# Altium footprint library PCB - Oscillators-TCXO - 4p - ECS-TXO-2016-33-160-TR.PcbLib: 1 footprints
Each footprint in its own frame and in the unit in brackets; x right, y up, seen from the top. Pads: shape width x height; smd on the part's side, far side on the other; paste and mask are expansions set on the pad; w line width, h text height; cw(c..) or ccw(c..) is an arc to the next point about the centre after c.
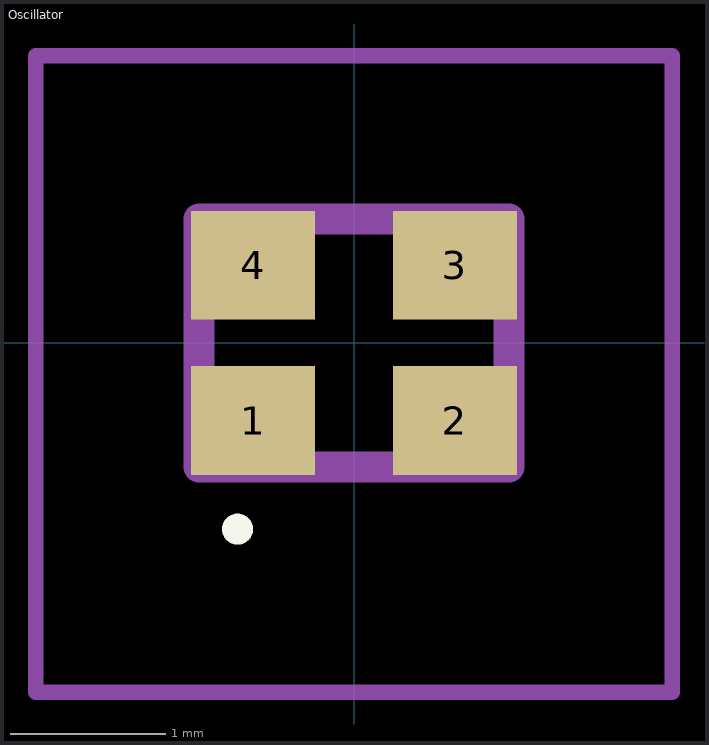
[diagram p0: the footprint, top view; thin cyan lines are the x and y axes]

## Oscillator [mm]
pads (4):
  rect 0.8x0.7 smd: 1(-0.65,-0.5) 2(0.65,-0.5) 3(0.65,0.5) 4(-0.65,0.5)
Top Overlay:
  lines w0.1: -0.8,-1.2 cw(c-0.75,-1.2) -0.7,-1.2 cw(c-0.75,-1.2) -0.8,-1.2
Mechanical 13:
  lines w0.2: -1,-0.8 -1,0.8 1,0.8 1,-0.8 -1,-0.8
Mechanical 15:
  lines w0.1: -2.05,-2.25 -2.05,1.85 2.05,1.85 2.05,-2.25 -2.05,-2.25
3D body "ECS-TXO-2016-33-160-TR.stp": height 0.9, standoff 0, extent -1,-0.8 1,0.8